# Altium footprint library SOIC8P127_490X599X175L104X41N.PcbLib: 1 footprints
Each footprint in its own frame and in the unit in brackets; x right, y up, seen from the top. Pads: shape width x height; smd on the part's side, far side on the other; paste and mask are expansions set on the pad; w line width, h text height; cw(c..) or ccw(c..) is an arc to the next point about the centre after c.
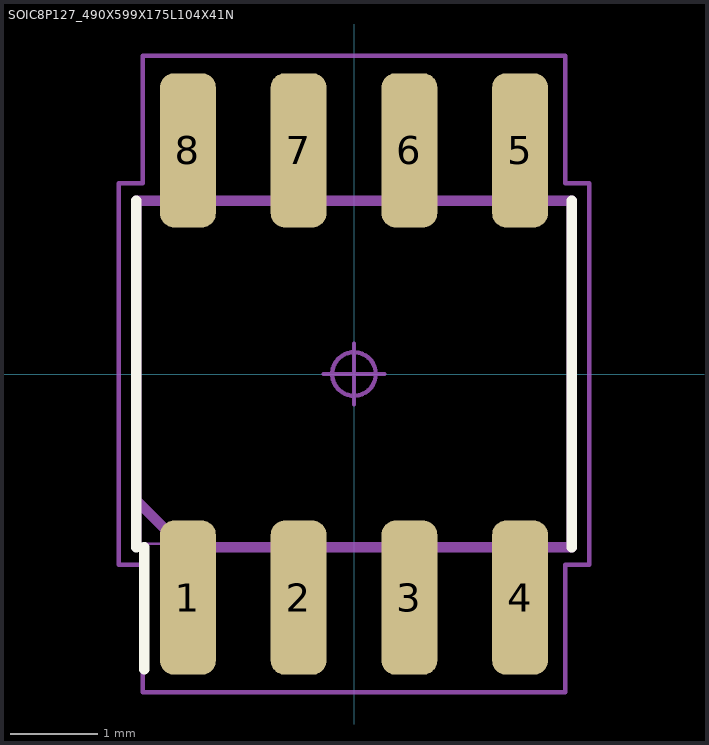
[diagram p0: the footprint, top view; thin cyan lines are the x and y axes]

## SOIC8P127_490X599X175L104X41N [mm] "Small Outline IC (SOIC), 1.27 mm pitch; 8 pin, 4.905 mm L X 3.895 mm W X 1.75 mm H body"
height 1.75
pads (8):
  rrect50% 0.64x1.77 smd: 1(-1.905,-2.565) 2(-0.635,-2.565) 3(0.635,-2.565) 4(1.905,-2.565) 5(1.905,2.565) 6(0.635,2.565) 7(-0.635,2.565) 8(-1.905,2.565)
Top Overlay:
  lines w0.12: -2.5,-1.99 -2.5,1.99 ; -2.405,-3.39 -2.405,-1.99 ; 2.5,-1.99 2.5,1.99
Mechanical 3:
  lines w0.12: -2.5,-1.45 -1.96,-1.99 2.5,-1.99 2.5,1.99 -2.5,1.99 -2.5,-1.45
Mechanical 5:
  lines w0.025: -2.452,-1.947 -2.452,1.947 2.452,1.947 2.452,-1.947 -2.452,-1.947 ; -2.11,-2.997 -1.7,-2.997 -1.7,-1.957 -2.11,-1.957 -2.11,-2.997 ; -2.11,1.957 -1.7,1.957 -1.7,2.997 -2.11,2.997 -2.11,1.957 ; -0.84,-2.997 -0.43,-2.997 -0.43,-1.957 -0.84,-1.957 -0.84,-2.997 ; -0.84,1.957 -0.43,1.957 -0.43,2.997 -0.84,2.997 -0.84,1.957 ; 0.43,-2.997 0.84,-2.997 0.84,-1.957 0.43,-1.957 0.43,-2.997 ; 0.43,1.957 0.84,1.957 0.84,2.997 0.43,2.997 0.43,1.957 ; 1.7,-2.997 2.11,-2.997 2.11,-1.957 1.7,-1.957 1.7,-2.997 ; 1.7,1.957 2.11,1.957 2.11,2.997 1.7,2.997 1.7,1.957
Mechanical 7:
  circle w0.05: c0,0 r0.25
  lines w0.05: -0.35,0 0.35,0 ; 0,-0.35 0,0.35 ; -2.7,-2.19 -2.7,2.19 -2.425,2.19 -2.425,3.65 2.425,3.65 2.425,2.19 2.7,2.19 2.7,-2.19 2.425,-2.19 2.425,-3.65 -2.425,-3.65 -2.425,-2.19 -2.7,-2.19
Mechanical 9:
  text "'.Designator'" at -5.505,-0.754 h1
3D body "SOIC8P127_490X599X175L104X41.STEP": height 1.75, standoff 0, extent -2.452,-2.997 2.452,2.997
3D body: height 1.04, standoff 0, extent -2.7,-3.65 2.7,3.65